# EAGLE library part X05X2 (library connectors)
Connector 2x5 pins
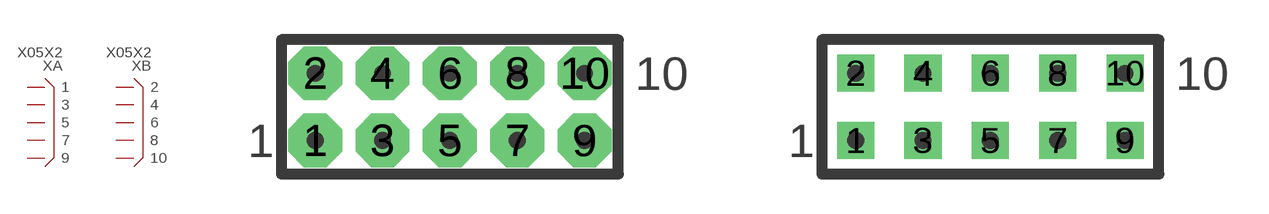
[diagram p52: symbol with the pads of X10N-DIL; footprints X10N-DIL, X10R-DIL]

Designator prefix X; gates A=X10A B=X10B

## X05X2D  [X10N-DIL]
1  A:1
2  B:2
3  A:3
4  B:4
5  A:5
6  B:6
7  A:7
8  B:8
9  A:9
10  B:10

## X05X2DR  [X10R-DIL]
Pads as for X10N-DIL

## X05X2I  [X10N-IDC]
Pads as for X10N-DIL

## X05X2  [X10N-IDC]
Pads as for X10N-DIL

## X05X2IR  [X10R-IDC]
Pads as for X10N-DIL

## X05X2IC  [X10N-RIBBON1]
Pads as for X10N-DIL

## X05X2ICR  [X10ICR]
Pads as for X10N-DIL

## Footprint X10N-DIL (pad centres in mm)
Connector 10 pins, DIL
drill 0.889 pad 2.032 octagon: 1 -5.08,-1.27; 2 -5.08,1.27; 3 -2.54,-1.27; 4 -2.54,1.27; 5 0,-1.27; 6 0,1.27; 7 2.54,-1.27; 8 2.54,1.27; 9 5.08,-1.27; 10 5.08,1.27

## Footprint X10R-DIL (pad centres in mm)
Connector 10 pins, DIL, reduced pads
drill 0.889 pad 1.397 square: 1 -5.08,-1.27; 2 -5.08,1.27; 3 -2.54,-1.27; 4 -2.54,1.27; 5 0,-1.27; 6 0,1.27; 7 2.54,-1.27; 8 2.54,1.27; 9 5.08,-1.27; 10 5.08,1.27

## Footprint X10N-IDC (pad centres in mm)
Connector 10 pins, IDC
drill 0.889 pad 2.032 octagon: 1 -5.08,-1.27; 2 -5.08,1.27; 3 -2.54,-1.27; 4 -2.54,1.27; 5 0,-1.27; 6 0,1.27; 7 2.54,-1.27; 8 2.54,1.27; 9 5.08,-1.27; 10 5.08,1.27

## Footprint X10R-IDC (pad centres in mm)
Connector 10 pins, IDC, reduced pads
drill 0.889 pad 1.397 square: 1 -5.08,-1.27; 2 -5.08,1.27; 3 -2.54,-1.27; 4 -2.54,1.27; 5 0,-1.27; 6 0,1.27; 7 2.54,-1.27; 8 2.54,1.27; 9 5.08,-1.27; 10 5.08,1.27

## Footprint X10N-RIBBON1 (pad centres in mm)
Connector 10 pins, IDC for ribbon cables
drill 0.889 pad 2.032 octagon: 1 -5.08,-1.27; 2 -5.08,1.27; 3 -2.54,-1.27; 4 -2.54,1.27; 5 0,-1.27; 6 0,1.27; 7 2.54,-1.27; 8 2.54,1.27; 9 5.08,-1.27; 10 5.08,1.27

## Footprint X10ICR (pad centres in mm)
Connector 10 pins, IDC for ribbon cables, reduces pads
drill 0.889 pad 1.397 square: 1 -5.08,-1.27; 2 -5.08,1.27; 3 -2.54,-1.27; 4 -2.54,1.27; 5 0,-1.27; 6 0,1.27; 7 2.54,-1.27; 8 2.54,1.27; 9 5.08,-1.27; 10 5.08,1.27